# Altium schematic symbol library SCH - POWER - SWITCHMODE - TI TPS62480RNC.SchLib: 1 symbol
Pins are listed as number, name and electrical type; pins without a type are passive.

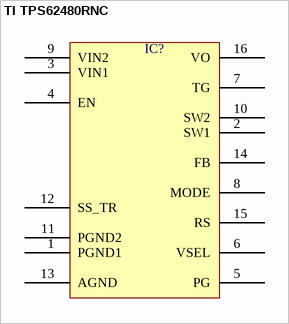
[diagram p0: symbol TI TPS62480RNC]

## TI TPS62480RNC
designator IC?  (value not drawn)
pins: 1 PGND1, 2 SW1, 3 VIN1, 4 EN, 5 PG, 6 VSEL, 7 TG, 8 MODE, 9 VIN2, 10 SW2, 11 PGND2, 12 SS_TR, 13 AGND, 14 FB, 15 RS, 16 VO